# EAGLE library part M50-3120545 (library LED_Driver_Board)
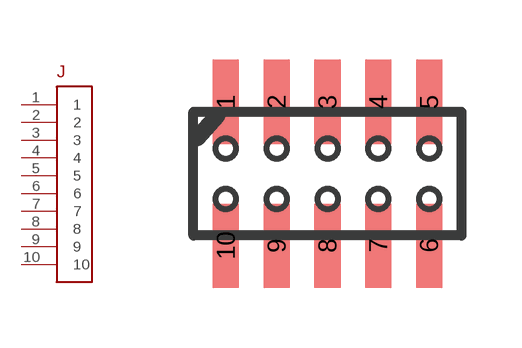
[diagram p1: symbol with the pads of 10PINFEMALE; footprint 10PINFEMALE]

Designator prefix J

## M50-3120545  [10PINFEMALE]
1  1
2  2
3  3
4  4
5  5
6  6
7  7
8  8
9  9
10  10

## Footprint 10PINFEMALE (pad centres in mm)
smd 0.65 x 2.1: 1 -2.54,1.8; 2 -1.27,1.8; 3 0,1.8; 4 1.27,1.8; 5 2.54,1.8; 6 2.54,-1.8; 7 1.27,-1.8; 8 0,-1.8; 9 -1.27,-1.8; 10 -2.54,-1.8